# Altium footprint library Connector_Molex.PcbLib: 815 footprints (part 50 of 51)
Each footprint in its own frame and in the unit in brackets; x right, y up, seen from the top. Pads: shape width x height; smd on the part's side, far side on the other; paste and mask are expansions set on the pad; w line width, h text height; cw(c..) or ccw(c..) is an arc to the next point about the centre after c.
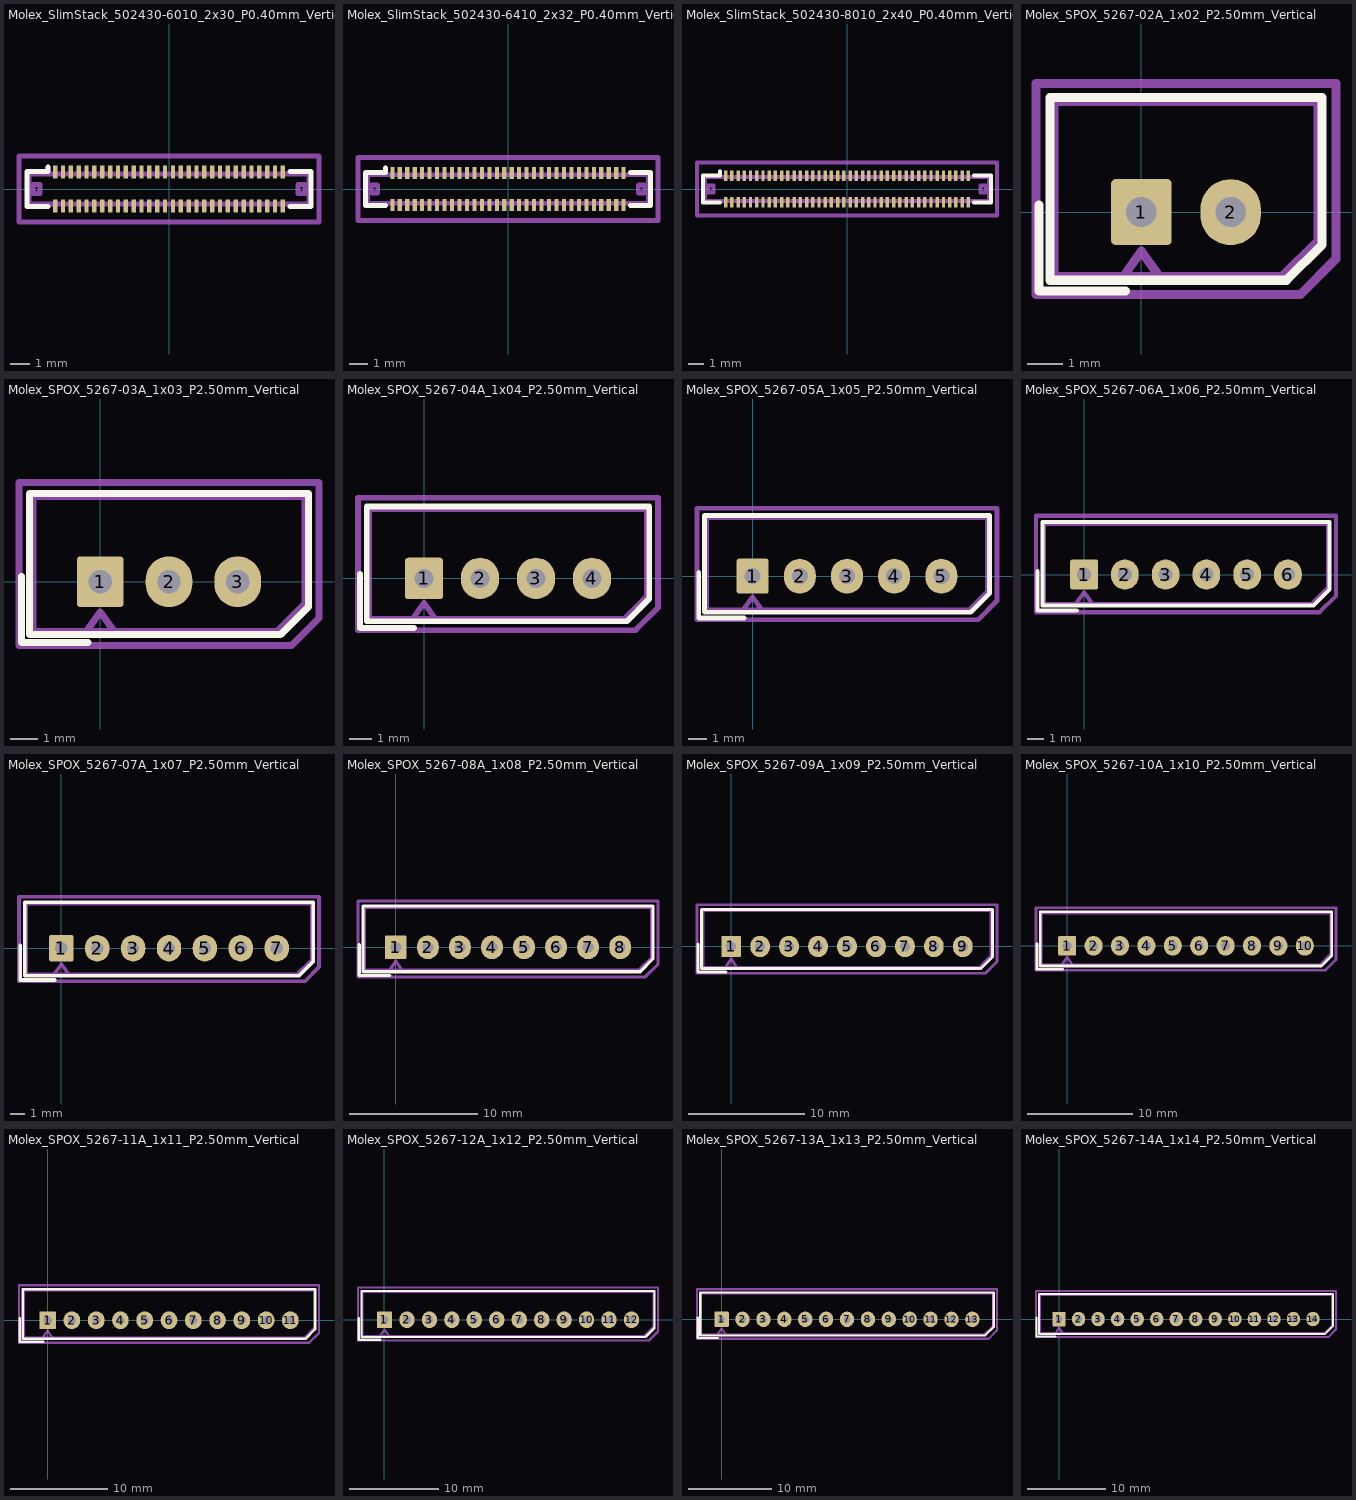
[diagram p49: the footprints below, top view; thin cyan lines are the x and y axes]

## Molex_SlimStack_502430-6010_2x30_P0.40mm_Vertical [mm]
pads (60):
  rect 0.22x0.66 smd: 1(-5.8,0.855) 2(-5.8,-0.855) 3(-5.4,0.855) 4(-5.4,-0.855) 5(-5,0.855) 6(-5,-0.855) 7(-4.6,0.855) 8(-4.6,-0.855) 9(-4.2,0.855) 10(-4.2,-0.855) 11(-3.8,0.855) 12(-3.8,-0.855) 13(-3.4,0.855) 14(-3.4,-0.855) 15(-3,0.855) 16(-3,-0.855) 17(-2.6,0.855) 18(-2.6,-0.855) 19(-2.2,0.855) 20(-2.2,-0.855) 21(-1.8,0.855) 22(-1.8,-0.855) 23(-1.4,0.855) 24(-1.4,-0.855) 25(-1,0.855) 26(-1,-0.855) 27(-0.6,0.855) 28(-0.6,-0.855) 29(-0.2,0.855) 30(-0.2,-0.855) 31(0.2,0.855) 32(0.2,-0.855) 33(0.6,0.855) 34(0.6,-0.855) 35(1,0.855) 36(1,-0.855) 37(1.4,0.855) 38(1.4,-0.855) 39(1.8,0.855) 40(1.8,-0.855) 41(2.2,0.855) 42(2.2,-0.855) 43(2.6,0.855) 44(2.6,-0.855) 45(3,0.855) 46(3,-0.855) 47(3.4,0.855) 48(3.4,-0.855) 49(3.8,0.855) 50(3.8,-0.855) 51(4.2,0.855) 52(4.2,-0.855) 53(4.6,0.855) 54(4.6,-0.855) 55(5,0.855) 56(5,-0.855) 57(5.4,0.855) 58(5.4,-0.855) 59(5.8,0.855) 60(5.8,-0.855)
F.SilkS:
  lines w0.254: -6.17,-0.88 -7.24,-0.88 -7.24,0.88 -6.17,0.88 -6.17,1.12 ; 6.17,-0.88 7.24,-0.88 7.24,0.88 6.17,0.88
Top Assembly:
  lines w0.254: -6.17,0.77 -6.17,1.12 ; -7.13,-0.77 7.13,-0.77 7.13,0.77 -7.13,0.77 -7.13,-0.77
  text "'.Designator'" at -4.047,-0.84 h1
Top Courtyard:
  lines w0.254: -7.64,-1.69 7.64,-1.69 7.64,1.69 -7.64,1.69 -7.64,-1.69
Top Designator:
  text ".Designator" at -7.618,-0.508 h1.52
Board Shape:
  lines w0.254: -6.925,-0.22 -6.575,-0.22 -6.575,0.22 -6.925,0.22 -6.925,-0.22 ; 6.575,-0.22 6.925,-0.22 6.925,0.22 6.575,0.22 6.575,-0.22

## Molex_SlimStack_502430-6410_2x32_P0.40mm_Vertical [mm]
pads (64):
  rect 0.22x0.66 smd: 1(-6.2,0.855) 2(-6.2,-0.855) 3(-5.8,0.855) 4(-5.8,-0.855) 5(-5.4,0.855) 6(-5.4,-0.855) 7(-5,0.855) 8(-5,-0.855) 9(-4.6,0.855) 10(-4.6,-0.855) 11(-4.2,0.855) 12(-4.2,-0.855) 13(-3.8,0.855) 14(-3.8,-0.855) 15(-3.4,0.855) 16(-3.4,-0.855) 17(-3,0.855) 18(-3,-0.855) 19(-2.6,0.855) 20(-2.6,-0.855) 21(-2.2,0.855) 22(-2.2,-0.855) 23(-1.8,0.855) 24(-1.8,-0.855) 25(-1.4,0.855) 26(-1.4,-0.855) 27(-1,0.855) 28(-1,-0.855) 29(-0.6,0.855) 30(-0.6,-0.855) 31(-0.2,0.855) 32(-0.2,-0.855) 33(0.2,0.855) 34(0.2,-0.855) 35(0.6,0.855) 36(0.6,-0.855) 37(1,0.855) 38(1,-0.855) 39(1.4,0.855) 40(1.4,-0.855) 41(1.8,0.855) 42(1.8,-0.855) 43(2.2,0.855) 44(2.2,-0.855) 45(2.6,0.855) 46(2.6,-0.855) 47(3,0.855) 48(3,-0.855) 49(3.4,0.855) 50(3.4,-0.855) 51(3.8,0.855) 52(3.8,-0.855) 53(4.2,0.855) 54(4.2,-0.855) 55(4.6,0.855) 56(4.6,-0.855) 57(5,0.855) 58(5,-0.855) 59(5.4,0.855) 60(5.4,-0.855) 61(5.8,0.855) 62(5.8,-0.855) 63(6.2,0.855) 64(6.2,-0.855)
F.SilkS:
  lines w0.254: -6.57,-0.88 -7.64,-0.88 -7.64,0.88 -6.57,0.88 -6.57,1.12 ; 6.57,-0.88 7.64,-0.88 7.64,0.88 6.57,0.88
Top Assembly:
  lines w0.254: -6.57,0.77 -6.57,1.12 ; -7.53,-0.77 7.53,-0.77 7.53,0.77 -7.53,0.77 -7.53,-0.77
  text "'.Designator'" at -4.047,-0.84 h1
Top Courtyard:
  lines w0.254: -8.04,-1.69 8.04,-1.69 8.04,1.69 -8.04,1.69 -8.04,-1.69
Top Designator:
  text ".Designator" at -7.618,-0.508 h1.52
Board Shape:
  lines w0.254: -7.325,-0.22 -6.975,-0.22 -6.975,0.22 -7.325,0.22 -7.325,-0.22 ; 6.975,-0.22 7.325,-0.22 7.325,0.22 6.975,0.22 6.975,-0.22

## Molex_SlimStack_502430-8010_2x40_P0.40mm_Vertical [mm]
pads (80):
  rect 0.22x0.66 smd: 1(-7.8,0.855) 2(-7.8,-0.855) 3(-7.4,0.855) 4(-7.4,-0.855) 5(-7,0.855) 6(-7,-0.855) 7(-6.6,0.855) 8(-6.6,-0.855) 9(-6.2,0.855) 10(-6.2,-0.855) 11(-5.8,0.855) 12(-5.8,-0.855) 13(-5.4,0.855) 14(-5.4,-0.855) 15(-5,0.855) 16(-5,-0.855) 17(-4.6,0.855) 18(-4.6,-0.855) 19(-4.2,0.855) 20(-4.2,-0.855) 21(-3.8,0.855) 22(-3.8,-0.855) 23(-3.4,0.855) 24(-3.4,-0.855) 25(-3,0.855) 26(-3,-0.855) 27(-2.6,0.855) 28(-2.6,-0.855) 29(-2.2,0.855) 30(-2.2,-0.855) 31(-1.8,0.855) 32(-1.8,-0.855) 33(-1.4,0.855) 34(-1.4,-0.855) 35(-1,0.855) 36(-1,-0.855) 37(-0.6,0.855) 38(-0.6,-0.855) 39(-0.2,0.855) 40(-0.2,-0.855) 41(0.2,0.855) 42(0.2,-0.855) 43(0.6,0.855) 44(0.6,-0.855) 45(1,0.855) 46(1,-0.855) 47(1.4,0.855) 48(1.4,-0.855) 49(1.8,0.855) 50(1.8,-0.855) 51(2.2,0.855) 52(2.2,-0.855) 53(2.6,0.855) 54(2.6,-0.855) 55(3,0.855) 56(3,-0.855) 57(3.4,0.855) 58(3.4,-0.855) 59(3.8,0.855) 60(3.8,-0.855) 61(4.2,0.855) 62(4.2,-0.855) 63(4.6,0.855) 64(4.6,-0.855) 65(5,0.855) 66(5,-0.855) 67(5.4,0.855) 68(5.4,-0.855) 69(5.8,0.855) 70(5.8,-0.855) 71(6.2,0.855) 72(6.2,-0.855) 73(6.6,0.855) 74(6.6,-0.855) 75(7,0.855) 76(7,-0.855) 77(7.4,0.855) 78(7.4,-0.855) 79(7.8,0.855) 80(7.8,-0.855)
F.SilkS:
  lines w0.254: -8.17,-0.88 -9.24,-0.88 -9.24,0.88 -8.17,0.88 -8.17,1.12 ; 8.17,-0.88 9.24,-0.88 9.24,0.88 8.17,0.88
Top Assembly:
  lines w0.254: -8.17,0.77 -8.17,1.12 ; -9.13,-0.77 9.13,-0.77 9.13,0.77 -9.13,0.77 -9.13,-0.77
  text "'.Designator'" at -4.047,-0.84 h1
Top Courtyard:
  lines w0.254: -9.64,-1.69 9.64,-1.69 9.64,1.69 -9.64,1.69 -9.64,-1.69
Top Designator:
  text ".Designator" at -7.618,-0.508 h1.52
Board Shape:
  lines w0.254: -8.925,-0.22 -8.575,-0.22 -8.575,0.22 -8.925,0.22 -8.925,-0.22 ; 8.575,-0.22 8.925,-0.22 8.925,0.22 8.575,0.22 8.575,-0.22

## Molex_SPOX_5267-02A_1x02_P2.50mm_Vertical [mm]
pads (2):
  rrect15% 1.7x1.85 hole 0.85: 1(0,0)
  rrect100% 1.7x1.85 hole 0.85: 2(2.5,0)
F.SilkS:
  lines w0.254: -2.86,0.2 -2.86,-2.21 -0.45,-2.21 ; -2.56,-1.91 4.06,-1.91 5.06,-0.91 5.06,3.21 -2.56,3.21 -2.56,-1.91
Top Assembly:
  lines w0.254: -0.5,-1.8 0,-1.093 0.5,-1.8 ; -2.45,-1.8 3.95,-1.8 4.95,-0.8 4.95,3.1 -2.45,3.1 -2.45,-1.8
  text "'.Designator'" at -2.797,1.56 h1
Top Courtyard:
  lines w0.254: -2.95,-2.31 4.45,-2.31 5.45,-1.31 5.45,3.6 -2.95,3.6 -2.95,-2.31
Top Designator:
  text ".Designator" at -6.368,0.137 h1.52

## Molex_SPOX_5267-03A_1x03_P2.50mm_Vertical [mm]
pads (3):
  rrect15% 1.7x1.85 hole 0.85: 1(0,0)
  rrect100% 1.7x1.85 hole 0.85: 2(2.5,0) 3(5,0)
F.SilkS:
  lines w0.254: -2.86,0.2 -2.86,-2.21 -0.45,-2.21 ; -2.56,-1.91 6.56,-1.91 7.56,-0.91 7.56,3.21 -2.56,3.21 -2.56,-1.91
Top Assembly:
  lines w0.254: -0.5,-1.8 0,-1.093 0.5,-1.8 ; -2.45,-1.8 6.45,-1.8 7.45,-0.8 7.45,3.1 -2.45,3.1 -2.45,-1.8
  text "'.Designator'" at -1.547,1.56 h1
Top Courtyard:
  lines w0.254: -2.95,-2.31 6.95,-2.31 7.95,-1.31 7.95,3.6 -2.95,3.6 -2.95,-2.31
Top Designator:
  text ".Designator" at -5.118,0.137 h1.52

## Molex_SPOX_5267-04A_1x04_P2.50mm_Vertical [mm]
pads (4):
  rrect15% 1.7x1.85 hole 0.85: 1(0,0)
  rrect100% 1.7x1.85 hole 0.85: 2(2.5,0) 3(5,0) 4(7.5,0)
F.SilkS:
  lines w0.254: -2.86,0.2 -2.86,-2.21 -0.45,-2.21 ; -2.56,-1.91 9.06,-1.91 10.06,-0.91 10.06,3.21 -2.56,3.21 -2.56,-1.91
Top Assembly:
  lines w0.254: -0.5,-1.8 0,-1.093 0.5,-1.8 ; -2.45,-1.8 8.95,-1.8 9.95,-0.8 9.95,3.1 -2.45,3.1 -2.45,-1.8
  text "'.Designator'" at -0.297,1.56 h1
Top Courtyard:
  lines w0.254: -2.95,-2.31 9.45,-2.31 10.45,-1.31 10.45,3.6 -2.95,3.6 -2.95,-2.31
Top Designator:
  text ".Designator" at -3.868,0.137 h1.52

## Molex_SPOX_5267-05A_1x05_P2.50mm_Vertical [mm]
pads (5):
  rrect15% 1.7x1.85 hole 0.85: 1(0,0)
  rrect100% 1.7x1.85 hole 0.85: 2(2.5,0) 3(5,0) 4(7.5,0) 5(10,0)
F.SilkS:
  lines w0.254: -2.86,0.2 -2.86,-2.21 -0.45,-2.21 ; -2.56,-1.91 11.56,-1.91 12.56,-0.91 12.56,3.21 -2.56,3.21 -2.56,-1.91
Top Assembly:
  lines w0.254: -0.5,-1.8 0,-1.093 0.5,-1.8 ; -2.45,-1.8 11.45,-1.8 12.45,-0.8 12.45,3.1 -2.45,3.1 -2.45,-1.8
  text "'.Designator'" at 0.953,1.56 h1
Top Courtyard:
  lines w0.254: -2.95,-2.31 11.95,-2.31 12.95,-1.31 12.95,3.6 -2.95,3.6 -2.95,-2.31
Top Designator:
  text ".Designator" at -2.618,0.137 h1.52

## Molex_SPOX_5267-06A_1x06_P2.50mm_Vertical [mm]
pads (6):
  rrect15% 1.7x1.85 hole 0.85: 1(0,0)
  rrect100% 1.7x1.85 hole 0.85: 2(2.5,0) 3(5,0) 4(7.5,0) 5(10,0) 6(12.5,0)
F.SilkS:
  lines w0.254: -2.86,0.2 -2.86,-2.21 -0.45,-2.21 ; -2.56,-1.91 14.06,-1.91 15.06,-0.91 15.06,3.21 -2.56,3.21 -2.56,-1.91
Top Assembly:
  lines w0.254: -0.5,-1.8 0,-1.093 0.5,-1.8 ; -2.45,-1.8 13.95,-1.8 14.95,-0.8 14.95,3.1 -2.45,3.1 -2.45,-1.8
  text "'.Designator'" at 2.203,1.56 h1
Top Courtyard:
  lines w0.254: -2.95,-2.31 14.45,-2.31 15.45,-1.31 15.45,3.6 -2.95,3.6 -2.95,-2.31
Top Designator:
  text ".Designator" at -1.368,0.137 h1.52

## Molex_SPOX_5267-07A_1x07_P2.50mm_Vertical [mm]
pads (7):
  rrect15% 1.7x1.85 hole 0.85: 1(0,0)
  rrect100% 1.7x1.85 hole 0.85: 2(2.5,0) 3(5,0) 4(7.5,0) 5(10,0) 6(12.5,0) 7(15,0)
F.SilkS:
  lines w0.254: -2.86,0.2 -2.86,-2.21 -0.45,-2.21 ; -2.56,-1.91 16.56,-1.91 17.56,-0.91 17.56,3.21 -2.56,3.21 -2.56,-1.91
Top Assembly:
  lines w0.254: -0.5,-1.8 0,-1.093 0.5,-1.8 ; -2.45,-1.8 16.45,-1.8 17.45,-0.8 17.45,3.1 -2.45,3.1 -2.45,-1.8
  text "'.Designator'" at 3.453,1.56 h1
Top Courtyard:
  lines w0.254: -2.95,-2.31 16.95,-2.31 17.95,-1.31 17.95,3.6 -2.95,3.6 -2.95,-2.31
Top Designator:
  text ".Designator" at -0.118,0.137 h1.52

## Molex_SPOX_5267-08A_1x08_P2.50mm_Vertical [mm]
pads (8):
  rrect15% 1.7x1.85 hole 0.85: 1(0,0)
  rrect100% 1.7x1.85 hole 0.85: 2(2.5,0) 3(5,0) 4(7.5,0) 5(10,0) 6(12.5,0) 7(15,0) 8(17.5,0)
F.SilkS:
  lines w0.254: -2.86,0.2 -2.86,-2.21 -0.45,-2.21 ; -2.56,-1.91 19.06,-1.91 20.06,-0.91 20.06,3.21 -2.56,3.21 -2.56,-1.91
Top Assembly:
  lines w0.254: -0.5,-1.8 0,-1.093 0.5,-1.8 ; -2.45,-1.8 18.95,-1.8 19.95,-0.8 19.95,3.1 -2.45,3.1 -2.45,-1.8
  text "'.Designator'" at 4.703,1.56 h1
Top Courtyard:
  lines w0.254: -2.95,-2.31 19.45,-2.31 20.45,-1.31 20.45,3.6 -2.95,3.6 -2.95,-2.31
Top Designator:
  text ".Designator" at 1.132,0.137 h1.52

## Molex_SPOX_5267-09A_1x09_P2.50mm_Vertical [mm]
pads (9):
  rrect15% 1.7x1.85 hole 0.85: 1(0,0)
  rrect100% 1.7x1.85 hole 0.85: 2(2.5,0) 3(5,0) 4(7.5,0) 5(10,0) 6(12.5,0) 7(15,0) 8(17.5,0) 9(20,0)
F.SilkS:
  lines w0.254: -2.86,0.2 -2.86,-2.21 -0.45,-2.21 ; -2.56,-1.91 21.56,-1.91 22.56,-0.91 22.56,3.21 -2.56,3.21 -2.56,-1.91
Top Assembly:
  lines w0.254: -0.5,-1.8 0,-1.093 0.5,-1.8 ; -2.45,-1.8 21.45,-1.8 22.45,-0.8 22.45,3.1 -2.45,3.1 -2.45,-1.8
  text "'.Designator'" at 5.953,1.56 h1
Top Courtyard:
  lines w0.254: -2.95,-2.31 21.95,-2.31 22.95,-1.31 22.95,3.6 -2.95,3.6 -2.95,-2.31
Top Designator:
  text ".Designator" at 2.382,0.137 h1.52

## Molex_SPOX_5267-10A_1x10_P2.50mm_Vertical [mm]
pads (10):
  rrect15% 1.7x1.85 hole 0.85: 1(0,0)
  rrect100% 1.7x1.85 hole 0.85: 2(2.5,0) 3(5,0) 4(7.5,0) 5(10,0) 6(12.5,0) 7(15,0) 8(17.5,0) 9(20,0) 10(22.5,0)
F.SilkS:
  lines w0.254: -2.86,0.2 -2.86,-2.21 -0.45,-2.21 ; -2.56,-1.91 24.06,-1.91 25.06,-0.91 25.06,3.21 -2.56,3.21 -2.56,-1.91
Top Assembly:
  lines w0.254: -0.5,-1.8 0,-1.093 0.5,-1.8 ; -2.45,-1.8 23.95,-1.8 24.95,-0.8 24.95,3.1 -2.45,3.1 -2.45,-1.8
  text "'.Designator'" at 7.203,1.56 h1
Top Courtyard:
  lines w0.254: -2.95,-2.31 24.45,-2.31 25.45,-1.31 25.45,3.6 -2.95,3.6 -2.95,-2.31
Top Designator:
  text ".Designator" at 3.632,0.137 h1.52

## Molex_SPOX_5267-11A_1x11_P2.50mm_Vertical [mm]
pads (11):
  rrect15% 1.7x1.85 hole 0.85: 1(0,0)
  rrect100% 1.7x1.85 hole 0.85: 2(2.5,0) 3(5,0) 4(7.5,0) 5(10,0) 6(12.5,0) 7(15,0) 8(17.5,0) 9(20,0) 10(22.5,0) 11(25,0)
F.SilkS:
  lines w0.254: -2.86,0.2 -2.86,-2.21 -0.45,-2.21 ; -2.56,-1.91 26.56,-1.91 27.56,-0.91 27.56,3.21 -2.56,3.21 -2.56,-1.91
Top Assembly:
  lines w0.254: -0.5,-1.8 0,-1.093 0.5,-1.8 ; -2.45,-1.8 26.45,-1.8 27.45,-0.8 27.45,3.1 -2.45,3.1 -2.45,-1.8
  text "'.Designator'" at 8.453,1.56 h1
Top Courtyard:
  lines w0.254: -2.95,-2.31 26.95,-2.31 27.95,-1.31 27.95,3.6 -2.95,3.6 -2.95,-2.31
Top Designator:
  text ".Designator" at 4.882,0.137 h1.52

## Molex_SPOX_5267-12A_1x12_P2.50mm_Vertical [mm]
pads (12):
  rrect15% 1.7x1.85 hole 0.85: 1(0,0)
  rrect100% 1.7x1.85 hole 0.85: 2(2.5,0) 3(5,0) 4(7.5,0) 5(10,0) 6(12.5,0) 7(15,0) 8(17.5,0) 9(20,0) 10(22.5,0) 11(25,0) 12(27.5,0)
F.SilkS:
  lines w0.254: -2.86,0.2 -2.86,-2.21 -0.45,-2.21 ; -2.56,-1.91 29.06,-1.91 30.06,-0.91 30.06,3.21 -2.56,3.21 -2.56,-1.91
Top Assembly:
  lines w0.254: -0.5,-1.8 0,-1.093 0.5,-1.8 ; -2.45,-1.8 28.95,-1.8 29.95,-0.8 29.95,3.1 -2.45,3.1 -2.45,-1.8
  text "'.Designator'" at 9.703,1.56 h1
Top Courtyard:
  lines w0.254: -2.95,-2.31 29.45,-2.31 30.45,-1.31 30.45,3.6 -2.95,3.6 -2.95,-2.31
Top Designator:
  text ".Designator" at 6.132,0.137 h1.52

## Molex_SPOX_5267-13A_1x13_P2.50mm_Vertical [mm]
pads (13):
  rrect15% 1.7x1.85 hole 0.85: 1(0,0)
  rrect100% 1.7x1.85 hole 0.85: 2(2.5,0) 3(5,0) 4(7.5,0) 5(10,0) 6(12.5,0) 7(15,0) 8(17.5,0) 9(20,0) 10(22.5,0) 11(25,0) 12(27.5,0) 13(30,0)
F.SilkS:
  lines w0.254: -2.86,0.2 -2.86,-2.21 -0.45,-2.21 ; -2.56,-1.91 31.56,-1.91 32.56,-0.91 32.56,3.21 -2.56,3.21 -2.56,-1.91
Top Assembly:
  lines w0.254: -0.5,-1.8 0,-1.093 0.5,-1.8 ; -2.45,-1.8 31.45,-1.8 32.45,-0.8 32.45,3.1 -2.45,3.1 -2.45,-1.8
  text "'.Designator'" at 10.953,1.56 h1
Top Courtyard:
  lines w0.254: -2.95,-2.31 31.95,-2.31 32.95,-1.31 32.95,3.6 -2.95,3.6 -2.95,-2.31
Top Designator:
  text ".Designator" at 7.382,0.137 h1.52

## Molex_SPOX_5267-14A_1x14_P2.50mm_Vertical [mm]
pads (14):
  rrect15% 1.7x1.85 hole 0.85: 1(0,0)
  rrect100% 1.7x1.85 hole 0.85: 2(2.5,0) 3(5,0) 4(7.5,0) 5(10,0) 6(12.5,0) 7(15,0) 8(17.5,0) 9(20,0) 10(22.5,0) 11(25,0) 12(27.5,0) 13(30,0) 14(32.5,0)
F.SilkS:
  lines w0.254: -2.86,0.2 -2.86,-2.21 -0.45,-2.21 ; -2.56,-1.91 34.06,-1.91 35.06,-0.91 35.06,3.21 -2.56,3.21 -2.56,-1.91
Top Assembly:
  lines w0.254: -0.5,-1.8 0,-1.093 0.5,-1.8 ; -2.45,-1.8 33.95,-1.8 34.95,-0.8 34.95,3.1 -2.45,3.1 -2.45,-1.8
  text "'.Designator'" at 12.203,1.56 h1
Top Courtyard:
  lines w0.254: -2.95,-2.31 34.45,-2.31 35.45,-1.31 35.45,3.6 -2.95,3.6 -2.95,-2.31
Top Designator:
  text ".Designator" at 8.632,0.137 h1.52